# EAGLE library part CC2652R1 (library AxonMobile)
TI CC2652R1 SimpleLink Multi-Standard Wireless MCU
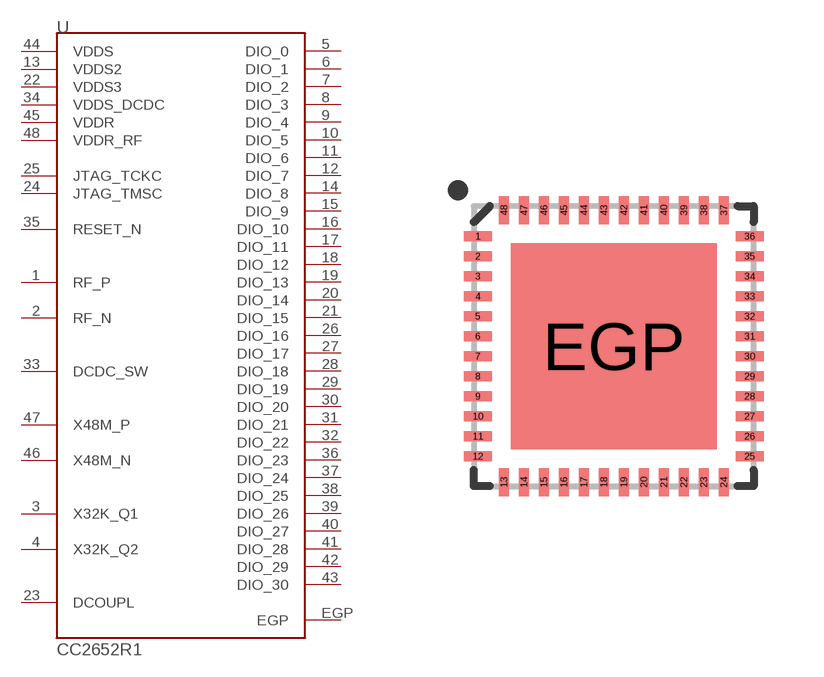
[diagram p0: symbol with the pads of CC2652R1_QFN-48; footprint CC2652R1_QFN-48]

Designator prefix -

## CC2652R1  [CC2652R1_QFN-48]
1  RF_P
2  RF_N
3  X32K_Q1
4  X32K_Q2
5  DIO_0
6  DIO_1
7  DIO_2
8  DIO_3
9  DIO_4
10  DIO_5
11  DIO_6
12  DIO_7
13  VDDS2
14  DIO_8
15  DIO_9
16  DIO_10
17  DIO_11
18  DIO_12
19  DIO_13
20  DIO_14
21  DIO_15
22  VDDS3
23  DCOUPL
24  JTAG_TMSC
25  JTAG_TCKC
26  DIO_16
27  DIO_17
28  DIO_18
29  DIO_19
30  DIO_20
31  DIO_21
32  DIO_22
33  DCDC_SW
34  VDDS_DCDC
35  RESET_N
36  DIO_23
37  DIO_24
38  DIO_25
39  DIO_26
40  DIO_27
41  DIO_28
42  DIO_29
43  DIO_30
44  VDDS
45  VDDR
46  X48M_N
47  X48M_P
48  VDDR_RF
EGP  EGP

## Footprint CC2652R1_QFN-48 (pad centres in mm)
48-pin QFN (7x7mm, 0.5mm pitch) Used on: ATSAMD21G
smd 0.7 x 0.25: 1 -3.4,2.75; 2 -3.4,2.25; 3 -3.4,1.75; 4 -3.4,1.25; 5 -3.4,0.75; 6 -3.4,0.25; 7 -3.4,-0.25; 8 -3.4,-0.75; 9 -3.4,-1.25; 10 -3.4,-1.75; 11 -3.4,-2.25; 12 -3.4,-2.75; 25 3.4,-2.75; 26 3.4,-2.25; 27 3.4,-1.75; 28 3.4,-1.25; 29 3.4,-0.75; 30 3.4,-0.25; 31 3.4,0.25; 32 3.4,0.75; 33 3.4,1.25; 34 3.4,1.75; 35 3.4,2.25; 36 3.4,2.75
smd 0.25 x 0.7: 13 -2.75,-3.4; 14 -2.25,-3.4; 15 -1.75,-3.4; 16 -1.25,-3.4; 17 -0.75,-3.4; 18 -0.25,-3.4; 19 0.25,-3.4; 20 0.75,-3.4; 21 1.25,-3.4; 22 1.75,-3.4; 23 2.25,-3.4; 24 2.75,-3.4; 37 2.75,3.4; 38 2.25,3.4; 39 1.75,3.4; 40 1.25,3.4; 41 0.75,3.4; 42 0.25,3.4; 43 -0.25,3.4; 44 -0.75,3.4; 45 -1.25,3.4; 46 -1.75,3.4; 47 -2.25,3.4; 48 -2.75,3.4
smd 5.15 x 5.15: EGP 0,0